# Altium integrated library 24LC04B_P.IntLib: 1 symbol
Pins are listed as number, name and electrical type; pins without a type are passive.

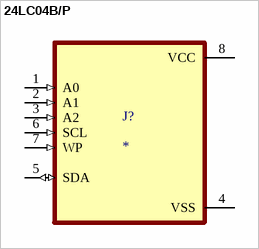
[diagram p0: symbol 24LC04B/P]

## 24LC04B/P
designator J?
MP: 24LC04B/P; Package: None; Price: None; Value: *; Availability: Unavailable
footprint DIP787W46P254L927H533Q8
pins: 1 A0 (in), 2 A1 (in), 3 A2 (in), 4 VSS (power), 5 SDA (io), 6 SCL (in), 7 WP (in), 8 VCC (power)